# Altium schematic symbol library MTFC2GMVEA.SchLib: 1 symbol
Pins are listed as number, name and electrical type; pins without a type are passive.

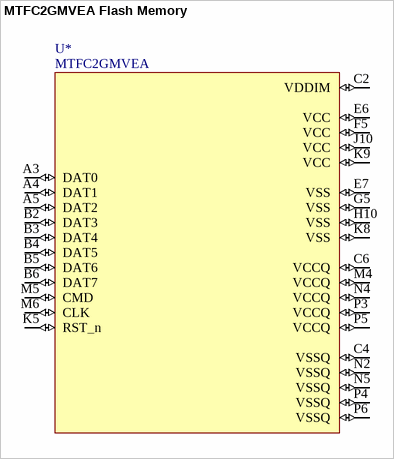
[diagram p0: symbol MTFC2GMVEA Flash Memory]

## MTFC2GMVEA Flash Memory
designator U*, comment MTFC2GMVEA
footprint MICRON 153-ball WFBGA  11.5mm x 13.0mm x 0.8mm (BGA, 153-Leads, Body 13,0x11,5mm,  Pitch 0,50mm)
pins: A3 DAT0 (io), A4 DAT1 (io), A5 DAT2 (io), B2 DAT3 (io), B3 DAT4 (io), B4 DAT5 (io), B5 DAT6 (io), B6 DAT7 (io), C2 VDDIM (io), C4 VSSQ (io), C6 VCCQ (io), E6 VCC (io), E7 VSS (io), F5 VCC (io), G5 VSS (io), H10 VSS (io), J10 VCC (io), K5 RST_n (io), K8 VSS (io), K9 VCC (io), M4 VCCQ (io), M5 CMD (io), M6 CLK (io), N2 VSSQ (io), N4 VCCQ (io), N5 VSSQ (io), P3 VCCQ (io), P4 VSSQ (io), P5 VCCQ (io), P6 VSSQ (io)